# Altium footprint library OBDII-components.PcbLib: 37 footprints (part 2 of 3)
Each footprint in its own frame and in the unit in brackets; x right, y up, seen from the top. Pads: shape width x height; smd on the part's side, far side on the other; paste and mask are expansions set on the pad; w line width, h text height; cw(c..) or ccw(c..) is an arc to the next point about the centre after c.
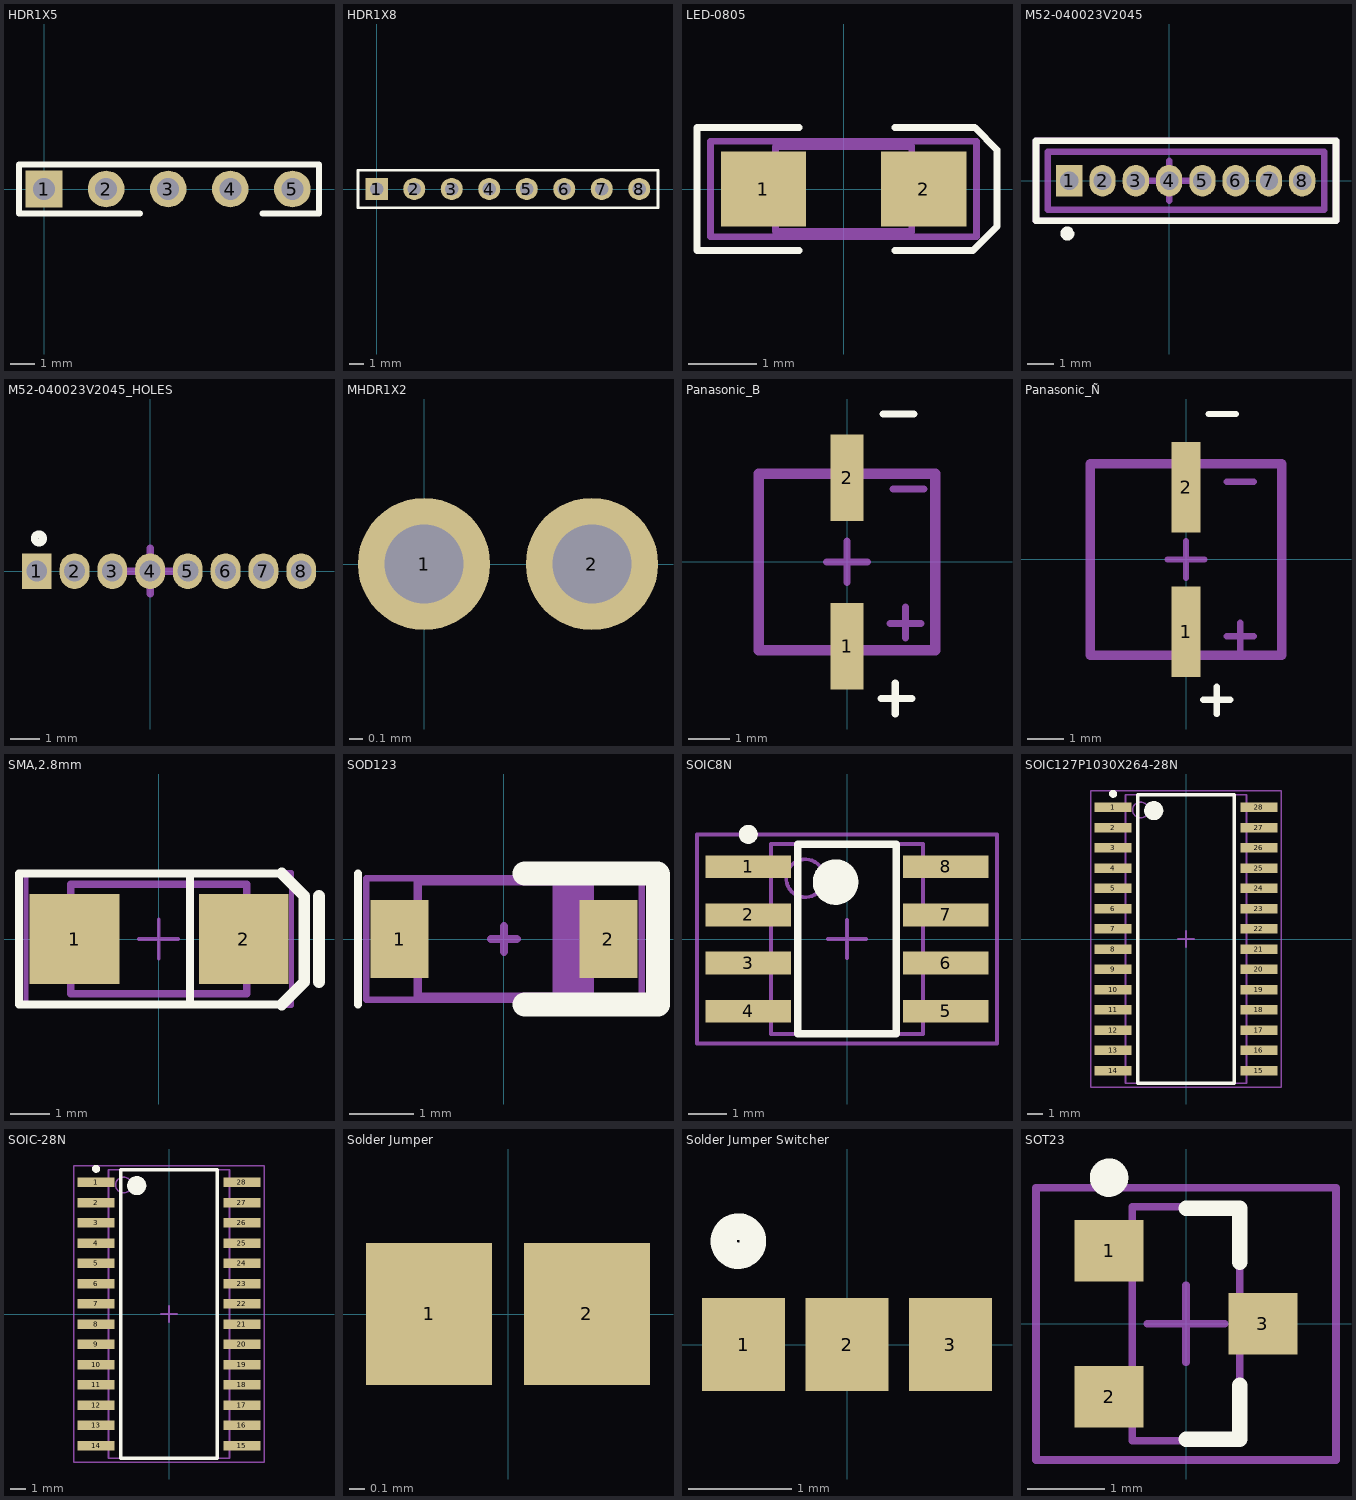
[diagram p1: the footprints below, top view; thin cyan lines are the x and y axes]

## HDR1X5 [mm] "Connector; Header; 5 Position"
pads (5):
  rect 1.5x1.5 hole 0.9: 1(0,0)
  round 1.5 hole 0.9: 2(2.54,0) 3(5.08,0) 4(7.62,0) 5(10.16,0)
Top Overlay:
  lines w0.254: 3.925,-1 -1.025,-1 -1.025,1 11.25,1 11.25,-1 8.95,-1

## HDR1X8 [mm] "Connector; Header; 8 Position"
pads (8):
  rect 1.5x1.5 hole 0.9: 1(0,0)
  round 1.5 hole 0.9: 2(2.54,0) 3(5.08,0) 4(7.62,0) 5(10.16,0) 6(12.7,0) 7(15.24,0) 8(17.78,0)
Top Overlay:
  lines w0.2: -1.27,-1.27 19.05,-1.27 19.05,1.27 -1.27,1.27 -1.27,-1.27

## LED-0805 [mm] "LED, Body 2 x 1.25 mm"
height 0.75
pads (2):
  rect 1.25x1.1 smd: 1(-1.175,0) 2(1.175,0)
Top Overlay:
  lines w0.1: -0.65,-0.9 -2.15,-0.9 -2.15,0.9 -0.65,0.9 ; 0.75,-0.9 1.9,-0.9 ; 0.75,0.9 1.925,0.9 ; 2.225,-0.575 1.9,-0.9 ; 1.9,-0.9 2.25,-0.55 2.25,0.575 ; 1.925,0.9 2.25,0.575 ; 1.925,0.9 2.25,0.575
Mechanical 13:
  lines w0.1: -1,-0.625 -1,0.625 1,0.625 1,-0.625 -1,-0.625
Mechanical 15:
  lines w0.1: -1.95,-0.7 1.95,-0.7 1.95,0.7 -1.95,0.7 -1.95,-0.7
3D body: height 0.75, standoff 0.01, extent -1,-0.625 1,0.625

## M52-040023V2045 [mm] "CONN HEADER .050\" 50POS PCB GOLD"
pads (8):
  rect 1x1.2 hole 0.7: 1(-3.81,0)
  oval 1x1.2 hole 0.7: 2(-2.54,0) 3(-1.27,0) 4(0,0) 5(1.27,0) 6(2.54,0) 7(3.81,0) 8(5.078,0)
Top Overlay:
  lines w0.254: -3.8,-1.9 ccw(c-3.882,-2.015) -3.74,-2.015 ; -5.08,-1.524 -5.08,1.27 -5.08,1.524 6.37,1.524 6.37,-1.524 -5.08,-1.524
Mechanical 1:
  text ".Designator" at -0.889,-0.254 h1.27
Mechanical 13:
  lines w0.254: -4.635,-1.105 -4.635,1.105 5.925,1.105 5.925,-1.105 -4.635,-1.105
Mechanical 15:
  lines w0.254: -0.762,0 0.762,0 ; 0,-0.762 0,0.762 ; -5.08,-1.524 6.37,-1.524 6.37,1.524 -5.08,1.524 -5.08,1.27 -5.08,-1.524
3D body: height 6.5, standoff -2.3, extent 2.216,-0.324 2.863,0.324
3D body: height 6.5, standoff -2.3, extent 0.946,-0.324 1.593,0.324
3D body: height 6.5, standoff -2.3, extent -0.324,-0.324 0.323,0.324
3D body: height 6.5, standoff -2.3, extent -1.594,-0.324 -0.947,0.324
3D body: height 6.5, standoff -2.3, extent -2.864,-0.324 -2.217,0.324
3D body: height 2, standoff 0, extent -4.635,-1.105 5.925,1.105
3D body: height 6.5, standoff -2.3, extent -4.134,-0.324 -3.487,0.324
3D body: height 6.5, standoff -2.3, extent 3.486,-0.324 4.133,0.324
3D body: height 6.5, standoff -2.3, extent 4.754,-0.324 5.402,0.324

## M52-040023V2045_HOLES [mm] "CONN HEADER .050\" 50POS PCB GOLD"
pads (8):
  rect 1x1.2 hole 0.7: 1(-3.81,0)
  oval 1x1.2 hole 0.7: 2(-2.54,0) 3(-1.27,0) 4(0,0) 5(1.27,0) 6(2.54,0) 7(3.812,0) 8(5.082,0)
Top Overlay:
  circle w0.254: c-3.741,1.1 r0.141
Mechanical 1:
  text ".Designator" at -0.889,-0.254 h1.27
Mechanical 15:
  lines w0.254: -0.762,0 0.762,0 ; 0,-0.762 0,0.762

## MHDR1X2 [mm] "Connector; Header; 2 Position"
pads (2):
  round 1 hole 0.6: 1(0,0) 2(1.27,0)

## Panasonic_B [mm] "Panasonic Ñ size code electrolytic capacitor"
height 5.5
pads (2):
  rect 0.8x2.1 smd paste+0: 1(0,-2.05)
  rect 0.8x2.1 smd: 2(0,2.05)
Top Overlay:
  lines w0.178: 0.825,-3.325 1.575,-3.325 ; 0.875,3.6 1.625,3.6 ; 1.175,-3.7 1.175,-2.95
Mechanical 1:
  text ".Designator" at -1.5,-0.5 h1.27
Mechanical 13:
  lines w0.178: 1.05,-1.5 1.8,-1.5 ; 1.125,1.775 1.875,1.775 ; 1.425,-1.85 1.425,-1.1
Mechanical 15:
  lines w0.178: -0.5,0 0.5,0 ; 0,-0.5 0,0.5
  lines w0.254: -2.15,-2.15 -2.15,2.15 2.15,2.15 2.15,-2.15 -2.15,-2.15

## Panasonic_Ñ [mm] "Panasonic Ñ size code electrolytic capacitor"
height 6.5
pads (2):
  rect 0.8x2.5 smd paste+0: 1(0,-2)
  rect 0.8x2.5 smd: 2(0,2)
Top Overlay:
  lines w0.178: 0.475,-3.875 1.225,-3.875 ; 0.625,4.025 1.375,4.025 ; 0.85,-4.275 0.85,-3.525
Mechanical 1:
  text ".Designator" at -1.5,-0.5 h1.27
Mechanical 13:
  lines w0.178: 1.125,-2.125 1.875,-2.125 ; 1.125,2.15 1.875,2.15 ; 1.5,-2.5 1.5,-1.75
Mechanical 15:
  lines w0.178: -0.5,0 0.5,0 ; 0,-0.5 0,0.5
  lines w0.254: -2.65,-2.65 -2.65,2.65 2.65,2.65 2.65,-2.65 -2.65,-2.65

## SMA,2.8mm [mm] "DO-214AC/SMA"
height 2.3
pads (2):
  rect 2.3x2.3 smd: 1(-2.15,0) 2(2.175,0)
Top Overlay:
  lines w0.2: 0.8,-1.675 0.8,1.675 ; 3.15,-1.675 -3.575,-1.675 -3.575,1.675 3.15,1.675
  lines w0.3: 3.15,-1.675 3.725,-1.1 3.725,1.1 3.15,1.675 ; 4.1,-1.1 4.1,1.1
Mechanical 1:
  text ".Designator" at 0,0 h0.64
Mechanical 13:
  lines w0.15: -2.25,-0.85 -2.8,-0.85 -2.8,0.85 -2.25,0.85 ; 2.25,-0.85 2.8,-0.85 2.8,0.85 2.25,0.85 ; 2.25,-0.5 cw(c2.25,0) 2.25,0.5 2.25,-0.5
  lines w0.2: 0.8,-1.4 0.8,1.4 ; 2.249,-1.4 -2.25,-1.4 -2.25,1.4 2.249,1.4 ; 2.25,-1.399 2.25,-0.5 ; 2.25,0.5 2.25,1.399
Mechanical 15:
  lines w0.1: -0.5,0 0.5,0 ; 0,-0.5 0,0.5
  lines w0.127: -3.4,-1.7 -3.4,1.7 3.4,1.7 3.4,-1.7 -3.4,-1.7
3D body: height 2.39, standoff -0.02, extent -2.6,-1.3 2.6,1.3

## SOD123 [mm] "Diode SOD123, Gull-wing"
height 0.034
pads (2):
  rect 0.91x1.22 smd: 1(-1.635,0) 2(1.635,0)
Top Overlay:
  lines w0.127: -2.286,-1.025 -2.286,1.025
  lines w0.254: 2.404,1.025 2.413,1.016
  lines w0.381: 0.325,-1.025 2.413,-1.025 2.413,1.016 ; 0.325,1.025 2.404,1.025
Mechanical 1:
  text ".Designator" at 0,0 h0.64
Mechanical 13:
  region: 0.762,-0.9 0.762,0.9 1.35,0.9 1.35,-0.9
  lines w0.127: -1.35,-0.9 -1.35,0.9 1.35,0.9 1.35,-0.9 -1.35,-0.9
Mechanical 15:
  lines w0.1: -2.159,-0.95 -2.159,0.95 2.159,0.95 2.159,-0.95 -2.159,-0.95
  lines w0.127: -0.2,0 0.2,0 ; 0,-0.2 0,0.2
3D body: height 1.27, standoff 0, extent -1.85,-0.8 1.85,0.8

## SOIC8N [mm] "SOIC, 8-Leads, Body 5.0x4.0mm (max), Pitch 1.27mm, IPC Medium Density"
height 1.75
pads (8):
  rect 2.25x0.6 smd: 1(-2.6,1.905) 2(-2.6,0.635) 3(-2.6,-0.635) 4(-2.6,-1.905) 5(2.6,-1.905) 6(2.6,-0.635) 7(2.6,0.635) 8(2.6,1.905)
Top Overlay:
  circle w0.6: c-0.3,1.5 r0.3
  circle w0.25: c-2.6,2.755 r0.125
  lines w0.2: -1.3,-2.5 1.3,-2.5 1.3,2.5 -1.3,2.5 -1.3,-2.5
Mechanical 1:
  text ".Designator" at 0.2,-2.35 h0.64
Mechanical 13:
  circle w0.1: c-1.1,1.6 r0.5
  lines w0.1: -2,-2.5 2,-2.5 2,2.5 -2,2.5 -2,-2.5
Mechanical 15:
  lines w0.1: -0.5,0 0.5,0 ; 0,-0.5 0,0.5 ; -3.95,-2.75 3.95,-2.75 3.95,2.75 -3.95,2.75 -3.95,-2.75
3D body: height 1.75, standoff 0.25, extent -2,-2.5 2,2.5

## SOIC127P1030X264-28N [mm] "SOIC, 28-Leads, Body 18.1x7.6mm (max), Pitch 1.27mm, IPC Medium Density"
height 2.64
pads (28):
  rect 2.3x0.6 smd: 1(-4.575,8.255) 2(-4.575,6.985) 3(-4.575,5.715) 4(-4.575,4.445) 5(-4.575,3.175) 6(-4.575,1.905) 7(-4.575,0.635) 8(-4.575,-0.635) 9(-4.575,-1.905) 10(-4.575,-3.175) 11(-4.575,-4.445) 12(-4.575,-5.715) 13(-4.575,-6.985) 14(-4.575,-8.255) 15(4.575,-8.255) 16(4.575,-6.985) 17(4.575,-5.715) 18(4.575,-4.445) 19(4.575,-3.175) 20(4.575,-1.905) 21(4.575,-0.635) 22(4.575,0.635) 23(4.575,1.905) 24(4.575,3.175) 25(4.575,4.445) 26(4.575,5.715) 27(4.575,6.985) 28(4.575,8.255)
Top Overlay:
  circle w0.6: c-2.025,8.05 r0.3
  circle w0.25: c-4.575,9.105 r0.125
  lines w0.2: -3.025,-9.05 3.025,-9.05 3.025,9.05 -3.025,9.05 -3.025,-9.05
Mechanical 1:
  text ".Designator" at -1.25,-0.25 h2
Mechanical 13:
  circle w0.1: c-2.845,8.09 r0.5
  lines w0.1: -3.795,-9.04 3.795,-9.04 3.795,9.04 -3.795,9.04 -3.795,-9.04
Mechanical 15:
  lines w0.1: -0.5,0 0.5,0 ; 0,-0.5 0,0.5 ; -5.975,-9.3 5.975,-9.3 5.975,9.3 -5.975,9.3 -5.975,-9.3
3D body: height 2.64, standoff 0.1, extent -3.795,-9.04 3.795,9.04

## SOIC-28N [mm] "SOIC, 28-Leads, Body 18.1x7.6mm (max), Pitch 1.27mm, IPC Medium Density"
height 2.64
pads (28):
  rect 2.3x0.6 smd: 1(-4.575,8.255) 2(-4.575,6.985) 3(-4.575,5.715) 4(-4.575,4.445) 5(-4.575,3.175) 6(-4.575,1.905) 7(-4.575,0.635) 8(-4.575,-0.635) 9(-4.575,-1.905) 10(-4.575,-3.175) 11(-4.575,-4.445) 12(-4.575,-5.715) 13(-4.575,-6.985) 14(-4.575,-8.255) 15(4.575,-8.255) 16(4.575,-6.985) 17(4.575,-5.715) 18(4.575,-4.445) 19(4.575,-3.175) 20(4.575,-1.905) 21(4.575,-0.635) 22(4.575,0.635) 23(4.575,1.905) 24(4.575,3.175) 25(4.575,4.445) 26(4.575,5.715) 27(4.575,6.985) 28(4.575,8.255)
Top Overlay:
  circle w0.6: c-2.025,8.05 r0.3
  circle w0.25: c-4.575,9.105 r0.125
  lines w0.2: -3.025,-9.05 3.025,-9.05 3.025,9.05 -3.025,9.05 -3.025,-9.05
Mechanical 1:
  text ".Designator" at -1.25,-0.25 h2
Mechanical 13:
  circle w0.1: c-2.845,8.09 r0.5
  lines w0.1: -3.795,-9.04 3.795,-9.04 3.795,9.04 -3.795,9.04 -3.795,-9.04
Mechanical 15:
  lines w0.1: -0.5,0 0.5,0 ; 0,-0.5 0,0.5 ; -5.975,-9.3 5.975,-9.3 5.975,9.3 -5.975,9.3 -5.975,-9.3
3D body: height 2.64, standoff 0.1, extent -3.795,-9.04 3.795,9.04

## Solder Jumper [mm] "Solder Jumper"
pads (2):
  rect 0.8x0.9 smd: 1(-0.5,0) 2(0.5,0)
Top Solder:
  rectangle: -0.3,-0.55 0.325,0.55

## Solder Jumper Switcher [mm] "Solder Jumper"
pads (3):
  rect 0.8x0.9 smd: 1(-1,0) 2(0,0) 3(1,0)
Top Overlay:
  circle w0.254: c-1.05,1 r0.141
Top Solder:
  rectangle: -0.3,-0.55 0.325,0.55

## SOT23 [mm] "SOT23, 3-Leads, Body 3.0x2.6mm, Pitch 0.95mm"
height 1.8
pads (3):
  rect 0.9x0.8 smd: 1(-1,0.95) 2(-1,-0.95) 3(1,0)
Top Overlay:
  circle w0.25: c-1,1.9 r0.125
  lines w0.2: 0,-1.5 0.7,-1.5 0.7,-0.8 ; 0,1.5 0.7,1.5 0.7,0.8
Mechanical 1:
  text ".Designator" at 0,0 h1.27
Mechanical 13:
  lines w0.1: -0.7,-1.52 -0.7,1.52 0.7,1.52 0.7,-1.52 -0.7,-1.52
Mechanical 15:
  lines w0.1: -0.5,0 0.5,0 ; 0,-0.5 0,0.5 ; -1.95,-1.77 -1.95,1.77 1.95,1.77 1.95,-1.77 -1.95,-1.77
3D body: height 1.01, standoff -0.01, extent -1.25,-1.46 1.226,1.46